# EAGLE library part TPS2061_1_DGN-16X60_TPS2051__DG (library BeagleBone_Black_egl)
TPS2061_1_DGN-16X60_TPS2051__DG
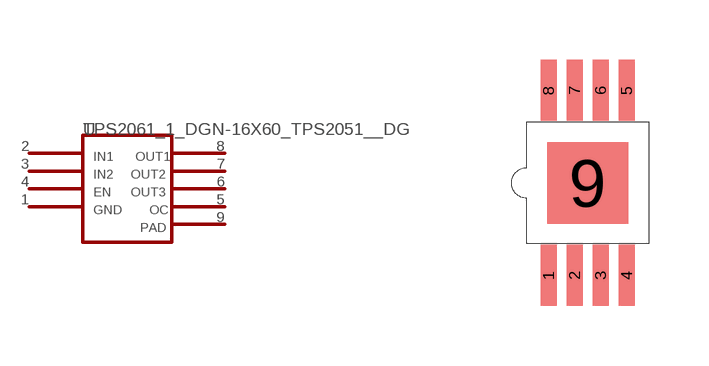
[diagram p20: symbol with the pads of DGN-16X60; footprint DGN-16X60]

Designator prefix -

## TPS2061_1_DGN-16X60_TPS2051__DG  [DGN-16X60]
1  1
2  2
3  3
4  4
5  8
6  5
7  6
8  7
9  9

## Footprint DGN-16X60 (pad centres in mm)
smd 0.406 x 1.524: 1 -0.975,-2.311; 2 -0.325,-2.311; 3 0.325,-2.311; 4 0.975,-2.311; 5 0.975,2.311; 6 0.325,2.311; 7 -0.325,2.311; 8 -0.975,2.311
smd 2.032 x 2.032: 9 0,0